# EAGLE library part NCV7381DP0R2G (library 2025-07-09_19-05-42_Library)
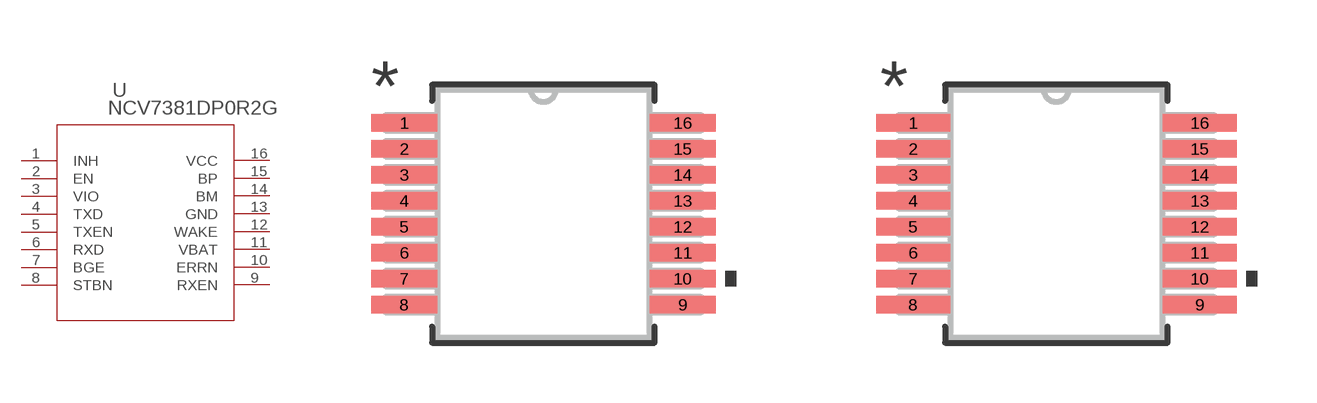
[diagram p0: symbol with the pads of SSOP16_5P38X6P33_ONS; footprints SSOP16_5P38X6P33_ONS, SSOP16_5P38X6P33_ONS-M]

Designator prefix U

## NCV7381DP0R2GSSOP16_5P38X6P33_ONS (Copyright: Copyright (C) 2025 Ultra Librarian. All rights reserved.; Manufacturer_Name: onsemi; Manufacturer_Part_Number: NCV7381DP0R2G)  [SSOP16_5P38X6P33_ONS]
1  INH  out
2  EN  in
3  VIO  pwr
4  TXD  in
5  TXEN  in
6  RXD  out
7  BGE  in
8  STBN  in
9  RXEN  out
10  ERRN  out
11  VBAT  pwr
12  WAKE  in
13  GND  pwr
14  BM
15  BP
16  VCC  pwr

## NCV7381DP0R2GSSOP16_5P38X6P33_ONS-M (Copyright: Copyright (C) 2025 Ultra Librarian. All rights reserved.; Manufacturer_Name: onsemi; Manufacturer_Part_Number: NCV7381DP0R2G)  [SSOP16_5P38X6P33_ONS-M]
Pads as for SSOP16_5P38X6P33_ONS

## NCV7381DP0R2GSSOP16_5P38X6P33_ONS-L (Copyright: Copyright (C) 2025 Ultra Librarian. All rights reserved.; Manufacturer_Name: onsemi; Manufacturer_Part_Number: NCV7381DP0R2G)  [SSOP16_5P38X6P33_ONS-L]
Pads as for SSOP16_5P38X6P33_ONS

## Footprint SSOP16_5P38X6P33_ONS (pad centres in mm)
smd 1.651 x 0.432: 1 -3.48,2.275; 2 -3.48,1.625; 3 -3.48,0.975; 4 -3.48,0.325; 5 -3.48,-0.325; 6 -3.48,-0.975; 7 -3.48,-1.625; 8 -3.48,-2.275; 9 3.48,-2.275; 10 3.48,-1.625; 11 3.48,-0.975; 12 3.48,-0.325; 13 3.48,0.325; 14 3.48,0.975; 15 3.48,1.625; 16 3.48,2.275

## Footprint SSOP16_5P38X6P33_ONS-M (pad centres in mm)
smd 1.854 x 0.432: 1 -3.581,2.275; 2 -3.581,1.625; 3 -3.581,0.975; 4 -3.581,0.325; 5 -3.581,-0.325; 6 -3.581,-0.975; 7 -3.581,-1.625; 8 -3.581,-2.275; 9 3.581,-2.275; 10 3.581,-1.625; 11 3.581,-0.975; 12 3.581,-0.325; 13 3.581,0.325; 14 3.581,0.975; 15 3.581,1.625; 16 3.581,2.275

## Footprint SSOP16_5P38X6P33_ONS-L (pad centres in mm)
smd 1.346 x 0.381: 1 -3.429,2.275; 2 -3.429,1.625; 3 -3.429,0.975; 4 -3.429,0.325; 5 -3.429,-0.325; 6 -3.429,-0.975; 7 -3.429,-1.625; 8 -3.429,-2.275; 9 3.429,-2.275; 10 3.429,-1.625; 11 3.429,-0.975; 12 3.429,-0.325; 13 3.429,0.325; 14 3.429,0.975; 15 3.429,1.625; 16 3.429,2.275